# Altium integrated library ZMDI DC-DC Converter.IntLib: 18 symbols (part 2 of 2)
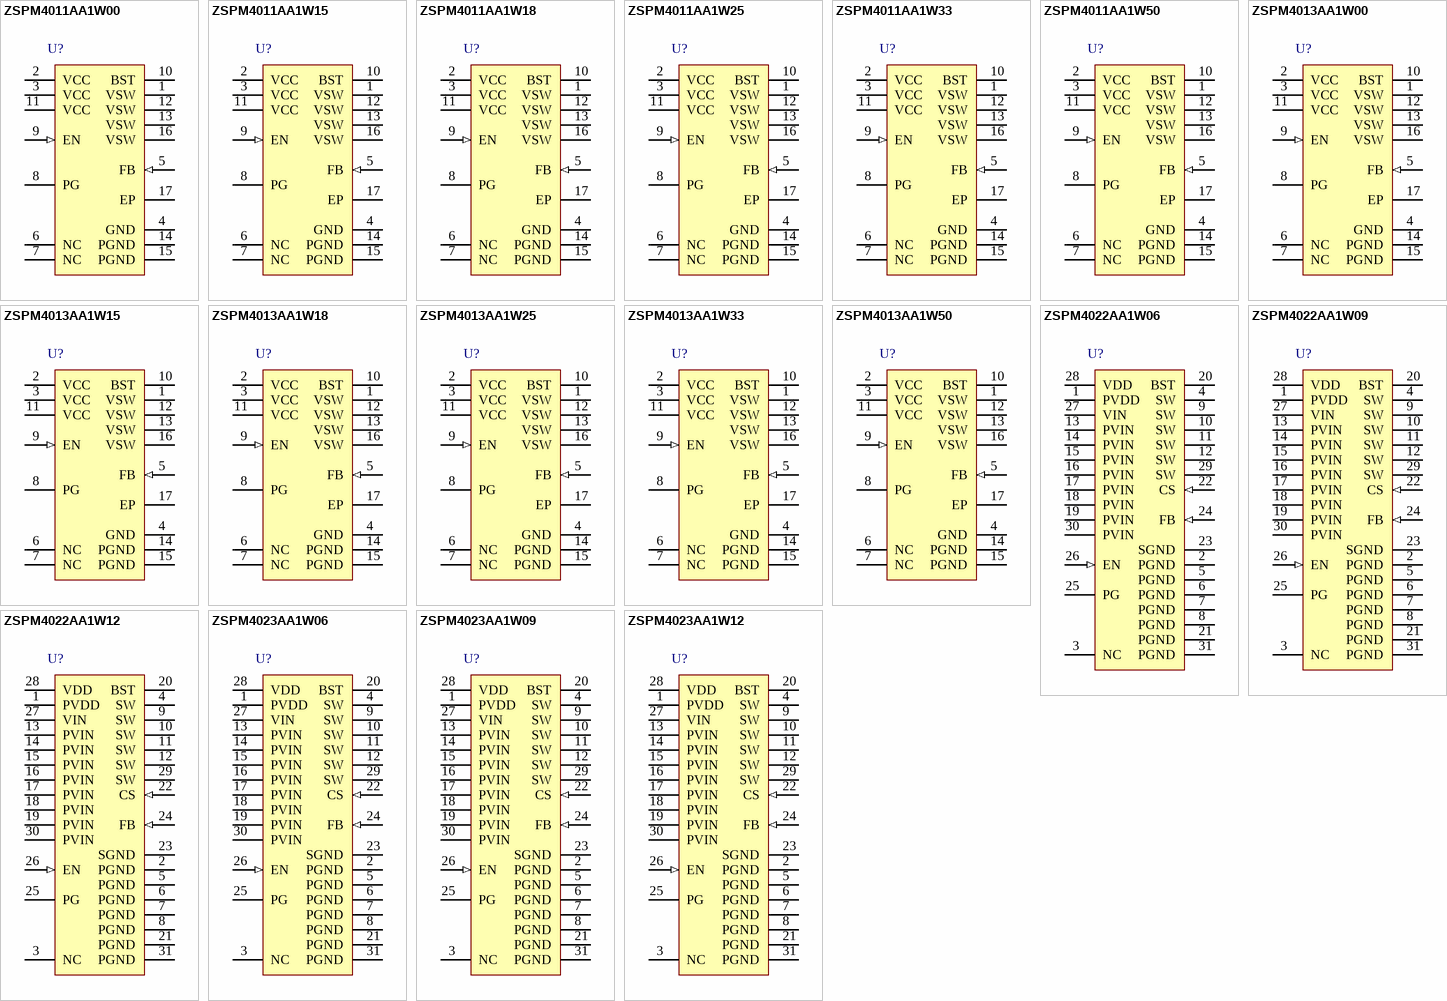
[diagram p1: symbols ZSPM4011AA1W00 to ZSPM4023AA1W12]

## ZSPM4023AA1W06
designator U?
24 V / 6 A Synchronous DC / DC Buck Regulator, 4.5 to 28 V Input, 0.8 to 5.5 V VDC, 6 A Iout, -40 to 125 degC, 28-Pin QFN, Reel, RoHS; Manufacturer: ZMDI; PartNumber: ZSPM4023AA1W06; Output (A): 6; DatasheetVersion: Rev. 1.00; PackageReference: QFN28; PackageDescription: 28-Pin Plastic Quad Flatpack, No Lead, 5 x 6 mm Body, 0.65 mm Pitch; Supplier 1: Mouser; Supplier Part Number 1: 964-ZSPM4023-06; Input Range (VDC): 4.5 to 28; Output (VDC): 0.8 to 5.5; Packing: Reel; RoHS: TRUE; Mounting Technology: Surface Mount; ComponentLink1Description: Manufacturer URL; ComponentLink1URL: http://www.zmdi.com/; ComponentLink2Description: Datasheet; ComponentLink2URL: http://zmdi.cdistore.com/datasheets/zmdi/ZSPM4023-06_Data_Sheet_Rev1_00_2013-10-16.pdf; ComponentLink3Description: Package Specification; ComponentLink3URL: http://www.zmdi.com/sites/default/files/ZSPM4022-06_Data_Sheet_Rev1_00_2013-08-29_0.pdf
footprint ZMDI-QFN28_V (QFN, 28-Leads, Body 5x6mm, Pitch 0.65mm)
pins: 1 PVDD (power), 2 PGND (power), 3 NC "No connection", 4 SW (power) "Switch node output. This is the internal connection for the high-side MOSFET source and low-side MOSFET drain. Due to the high-speed switching on this pin, the SW pin should be routed away from sensitive nodes.", 5 PGND (power), 6 PGND (power), 7 PGND (power), 8 PGND (power), 9 SW (power) "Switch node output. This is the internal connection for the high-side MOSFET source and low-side MOSFET drain. Due to the high-speed switching on this pin, the SW pin should be routed away from sensitive nodes.", 10 SW (power) "Switch node output. This is the internal connection for the high-side MOSFET source and low-side MOSFET drain. Due to the high-speed switching on this pin, the SW pin should be routed away from sensitive nodes.", 11 SW (power) "Switch node output. This is the internal connection for the high-side MOSFET source and low-side MOSFET drain. Due to the high-speed switching on this pin, the SW pin should be routed away from sensitive nodes.", 12 SW (power) "Switch node output. This is the internal connection for the high-side MOSFET source and low-side MOSFET drain. Due to the high-speed switching on this pin, the SW pin should be routed away from sensitive nodes.", 13 PVIN (power) "High-side N-channel internal MOSFET drain connection input. The PVIN operating voltage range is from 4.5V to 28V. Input capacitors between the PVIN pins and the power ground (PGND) are required, and these connections must be (See Datasheet)", 14 PVIN (power) "High-side N-channel internal MOSFET drain connection input. The PVIN operating voltage range is from 4.5V to 28V. Input capacitors between the PVIN pins and the power ground (PGND) are required, and these connections must be (See Datasheet)", 15 PVIN (power) "High-side N-channel internal MOSFET drain connection input. The PVIN operating voltage range is from 4.5V to 28V. Input capacitors between the PVIN pins and the power ground (PGND) are required, and these connections must be (See Datasheet)", 16 PVIN (power) "High-side N-channel internal MOSFET drain connection input. The PVIN operating voltage range is from 4.5V to 28V. Input capacitors between the PVIN pins and the power ground (PGND) are required, and these connections must be (See Datasheet)", 17 PVIN (power) "High-side N-channel internal MOSFET drain connection input. The PVIN operating voltage range is from 4.5V to 28V. Input capacitors between the PVIN pins and the power ground (PGND) are required, and these connections must be (See Datasheet)", 18 PVIN (power) "High-side N-channel internal MOSFET drain connection input. The PVIN operating voltage range is from 4.5V to 28V. Input capacitors between the PVIN pins and the power ground (PGND) are required, and these connections must be (See Datasheet)", 19 PVIN (power) "High-side N-channel internal MOSFET drain connection input. The PVIN operating voltage range is from 4.5V to 28V. Input capacitors between the PVIN pins and the power ground (PGND) are required, and these connections must be (See Datasheet)", 20 BST "Boost output. This is the bootstrapped voltage to the high-side N-channel MOSFET driver. A Schottky diode is connected between the PVDD pin and the BST pin. A boost capacitor of 0.1uF is connected between the BST pin and the (See Datasheet)", 21 PGND (power), 22 CS (in), 23 SGND (power) "Signal ground. SGND must be connected directly to the ground planes. Do not route the SGND pin to the PGND pad on the top layer (see section 5 for details).", 24 FB (in) "Feedback input. This is the input to the transconductance amplifier of the control loop. The FB pin is regulated to 0.8V. A resistor divider connecting the feedback to the output is used to adjust the desired output voltage.", 25 PG (oc) "Power good output (open drain). The PG pin is externally tied to VDD through a 10kohm pull-up resistor. A high output is asserted when VOUT >  92% of nominal.", 26 EN (in), 27 VIN (power) "Power supply voltage input. This pin requires a bypass capacitor to PGND.", 28 VDD (power), 29 SW (power) "Switch node output. This is the internal connection for the high-side MOSFET source and low-side MOSFET drain. Due to the high-speed switching on this pin, the SW pin should be routed away from sensitive nodes.", 30 PVIN (power) "High-side N-channel internal MOSFET drain connection input. The PVIN operating voltage range is from 4.5V to 28V. Input capacitors between the PVIN pins and the power ground (PGND) are required, and these connections must be (See Datasheet)", 31 PGND (power)

## ZSPM4023AA1W09
designator U?
24 V / 9 A Synchronous DC / DC Buck Regulator, 4.5 to 28 V Input, 0.8 to 5.5 V VDC, 9 A Iout, -40 to 125 degC, 28-Pin QFN, Reel, RoHS; Manufacturer: ZMDI; PartNumber: ZSPM4023AA1W09; Output (A): 9; DatasheetVersion: Rev. 1.00; PackageReference: QFN28; PackageDescription: 28-Pin Plastic Quad Flatpack, No Lead, 5 x 6 mm Body, 0.65 mm Pitch; Supplier 1: Mouser; Supplier Part Number 1: 964-ZSPM4023-09; Input Range (VDC): 4.5 to 28; Output (VDC): 0.8 to 5.5; Packing: Reel; RoHS: TRUE; Mounting Technology: Surface Mount; ComponentLink1Description: Manufacturer URL; ComponentLink1URL: http://www.zmdi.com/; ComponentLink2Description: Datasheet; ComponentLink2URL: http://zmdi.cdistore.com/datasheets/zmdi/ZSPM4023-09_Data_Sheet_Rev1_00_2013-10-17.pdf; ComponentLink3Description: Package Specification; ComponentLink3URL: http://www.zmdi.com/sites/default/files/ZSPM4022-06_Data_Sheet_Rev1_00_2013-08-29_0.pdf
footprint ZMDI-QFN28_V (QFN, 28-Leads, Body 5x6mm, Pitch 0.65mm)
pins: 1 PVDD (power), 2 PGND (power), 3 NC "No connection", 4 SW (power) "Switch node output. This is the internal connection for the high-side MOSFET source and low-side MOSFET drain. Due to the high-speed switching on this pin, the SW pin should be routed away from sensitive nodes.", 5 PGND (power), 6 PGND (power), 7 PGND (power), 8 PGND (power), 9 SW (power) "Switch node output. This is the internal connection for the high-side MOSFET source and low-side MOSFET drain. Due to the high-speed switching on this pin, the SW pin should be routed away from sensitive nodes.", 10 SW (power) "Switch node output. This is the internal connection for the high-side MOSFET source and low-side MOSFET drain. Due to the high-speed switching on this pin, the SW pin should be routed away from sensitive nodes.", 11 SW (power) "Switch node output. This is the internal connection for the high-side MOSFET source and low-side MOSFET drain. Due to the high-speed switching on this pin, the SW pin should be routed away from sensitive nodes.", 12 SW (power) "Switch node output. This is the internal connection for the high-side MOSFET source and low-side MOSFET drain. Due to the high-speed switching on this pin, the SW pin should be routed away from sensitive nodes.", 13 PVIN (power) "High-side N-channel internal MOSFET drain connection input. The PVIN operating voltage range is from 4.5V to 28V. Input capacitors between the PVIN pins and the power ground (PGND) are required, and these connections must be (See Datasheet)", 14 PVIN (power) "High-side N-channel internal MOSFET drain connection input. The PVIN operating voltage range is from 4.5V to 28V. Input capacitors between the PVIN pins and the power ground (PGND) are required, and these connections must be (See Datasheet)", 15 PVIN (power) "High-side N-channel internal MOSFET drain connection input. The PVIN operating voltage range is from 4.5V to 28V. Input capacitors between the PVIN pins and the power ground (PGND) are required, and these connections must be (See Datasheet)", 16 PVIN (power) "High-side N-channel internal MOSFET drain connection input. The PVIN operating voltage range is from 4.5V to 28V. Input capacitors between the PVIN pins and the power ground (PGND) are required, and these connections must be (See Datasheet)", 17 PVIN (power) "High-side N-channel internal MOSFET drain connection input. The PVIN operating voltage range is from 4.5V to 28V. Input capacitors between the PVIN pins and the power ground (PGND) are required, and these connections must be (See Datasheet)", 18 PVIN (power) "High-side N-channel internal MOSFET drain connection input. The PVIN operating voltage range is from 4.5V to 28V. Input capacitors between the PVIN pins and the power ground (PGND) are required, and these connections must be (See Datasheet)", 19 PVIN (power) "High-side N-channel internal MOSFET drain connection input. The PVIN operating voltage range is from 4.5V to 28V. Input capacitors between the PVIN pins and the power ground (PGND) are required, and these connections must be (See Datasheet)", 20 BST "Boost output. This is the bootstrapped voltage to the high-side N-channel MOSFET driver. A Schottky diode is connected between the PVDD pin and the BST pin. A boost capacitor of 0.1uF is connected between the BST pin and the (See Datasheet)", 21 PGND (power), 22 CS (in), 23 SGND (power) "Signal ground. SGND must be connected directly to the ground planes. Do not route the SGND pin to the PGND pad on the top layer (see section 5 for details).", 24 FB (in) "Feedback input. This is the input to the transconductance amplifier of the control loop. The FB pin is regulated to 0.8V. A resistor divider connecting the feedback to the output is used to adjust the desired output voltage.", 25 PG (oc) "Power good output (open drain). The PG pin is externally tied to VDD through a 10kohm pull-up resistor. A high output is asserted when VOUT >  92% of nominal.", 26 EN (in), 27 VIN (power) "Power supply voltage input. This pin requires a bypass capacitor to PGND.", 28 VDD (power), 29 SW (power) "Switch node output. This is the internal connection for the high-side MOSFET source and low-side MOSFET drain. Due to the high-speed switching on this pin, the SW pin should be routed away from sensitive nodes.", 30 PVIN (power) "High-side N-channel internal MOSFET drain connection input. The PVIN operating voltage range is from 4.5V to 28V. Input capacitors between the PVIN pins and the power ground (PGND) are required, and these connections must be (See Datasheet)", 31 PGND (power)

## ZSPM4023AA1W12
designator U?
24 V / 12 A Synchronous DC / DC Buck Regulator, 4.5 to 28 V Input, 0.8 to 5.5 V VDC, 12 A Iout, -40 to 125 degC, 28-Pin QFN, Reel, RoHS; Manufacturer: ZMDI; PartNumber: ZSPM4023AA1W12; Output (A): 12; DatasheetVersion: Rev. 1.00; PackageReference: QFN28; PackageDescription: 28-Pin Plastic Quad Flatpack, No Lead, 5 x 6 mm Body, 0.65 mm Pitch; Supplier 1: Mouser; Supplier Part Number 1: 964-ZSPM4023-12; Input Range (VDC): 4.5 to 28; Output (VDC): 0.8 to 5.5; Packing: Reel; RoHS: TRUE; Mounting Technology: Surface Mount; ComponentLink1Description: Manufacturer URL; ComponentLink1URL: http://www.zmdi.com/; ComponentLink2Description: Datasheet; ComponentLink2URL: http://zmdi.cdistore.com/datasheets/zmdi/ZSPM4023-12_Data_Sheet_Rev1_00_2013-10-17.pdf; ComponentLink3Description: Package Specification; ComponentLink3URL: http://www.zmdi.com/sites/default/files/ZSPM4022-06_Data_Sheet_Rev1_00_2013-08-29_0.pdf
footprint ZMDI-QFN28_V (QFN, 28-Leads, Body 5x6mm, Pitch 0.65mm)
pins: 1 PVDD (power), 2 PGND (power), 3 NC "No connection", 4 SW (power) "Switch node output. This is the internal connection for the high-side MOSFET source and low-side MOSFET drain. Due to the high-speed switching on this pin, the SW pin should be routed away from sensitive nodes.", 5 PGND (power), 6 PGND (power), 7 PGND (power), 8 PGND (power), 9 SW (power) "Switch node output. This is the internal connection for the high-side MOSFET source and low-side MOSFET drain. Due to the high-speed switching on this pin, the SW pin should be routed away from sensitive nodes.", 10 SW (power) "Switch node output. This is the internal connection for the high-side MOSFET source and low-side MOSFET drain. Due to the high-speed switching on this pin, the SW pin should be routed away from sensitive nodes.", 11 SW (power) "Switch node output. This is the internal connection for the high-side MOSFET source and low-side MOSFET drain. Due to the high-speed switching on this pin, the SW pin should be routed away from sensitive nodes.", 12 SW (power) "Switch node output. This is the internal connection for the high-side MOSFET source and low-side MOSFET drain. Due to the high-speed switching on this pin, the SW pin should be routed away from sensitive nodes.", 13 PVIN (power) "High-side N-channel internal MOSFET drain connection input. The PVIN operating voltage range is from 4.5V to 28V. Input capacitors between the PVIN pins and the power ground (PGND) are required, and these connections must be (See Datasheet)", 14 PVIN (power) "High-side N-channel internal MOSFET drain connection input. The PVIN operating voltage range is from 4.5V to 28V. Input capacitors between the PVIN pins and the power ground (PGND) are required, and these connections must be (See Datasheet)", 15 PVIN (power) "High-side N-channel internal MOSFET drain connection input. The PVIN operating voltage range is from 4.5V to 28V. Input capacitors between the PVIN pins and the power ground (PGND) are required, and these connections must be (See Datasheet)", 16 PVIN (power) "High-side N-channel internal MOSFET drain connection input. The PVIN operating voltage range is from 4.5V to 28V. Input capacitors between the PVIN pins and the power ground (PGND) are required, and these connections must be (See Datasheet)", 17 PVIN (power) "High-side N-channel internal MOSFET drain connection input. The PVIN operating voltage range is from 4.5V to 28V. Input capacitors between the PVIN pins and the power ground (PGND) are required, and these connections must be (See Datasheet)", 18 PVIN (power) "High-side N-channel internal MOSFET drain connection input. The PVIN operating voltage range is from 4.5V to 28V. Input capacitors between the PVIN pins and the power ground (PGND) are required, and these connections must be (See Datasheet)", 19 PVIN (power) "High-side N-channel internal MOSFET drain connection input. The PVIN operating voltage range is from 4.5V to 28V. Input capacitors between the PVIN pins and the power ground (PGND) are required, and these connections must be (See Datasheet)", 20 BST "Boost output. This is the bootstrapped voltage to the high-side N-channel MOSFET driver. A Schottky diode is connected between the PVDD pin and the BST pin. A boost capacitor of 0.1uF is connected between the BST pin and the (See Datasheet)", 21 PGND (power), 22 CS (in), 23 SGND (power) "Signal ground. SGND must be connected directly to the ground planes. Do not route the SGND pin to the PGND pad on the top layer (see section 5 for details).", 24 FB (in) "Feedback input. This is the input to the transconductance amplifier of the control loop. The FB pin is regulated to 0.8V. A resistor divider connecting the feedback to the output is used to adjust the desired output voltage.", 25 PG (oc) "Power good output (open drain). The PG pin is externally tied to VDD through a 10kohm pull-up resistor. A high output is asserted when VOUT >  92% of nominal.", 26 EN (in), 27 VIN (power) "Power supply voltage input. This pin requires a bypass capacitor to PGND.", 28 VDD (power), 29 SW (power) "Switch node output. This is the internal connection for the high-side MOSFET source and low-side MOSFET drain. Due to the high-speed switching on this pin, the SW pin should be routed away from sensitive nodes.", 30 PVIN (power) "High-side N-channel internal MOSFET drain connection input. The PVIN operating voltage range is from 4.5V to 28V. Input capacitors between the PVIN pins and the power ground (PGND) are required, and these connections must be (See Datasheet)", 31 PGND (power)